# Altium footprint library 47 RESISTORS_THD_AX14_8mm_P.PcbLib: 9 footprints
Each footprint in its own frame and in the unit in brackets; x right, y up, seen from the top. Pads: shape width x height; smd on the part's side, far side on the other; paste and mask are expansions set on the pad; w line width, h text height; cw(c..) or ccw(c..) is an arc to the next point about the centre after c.
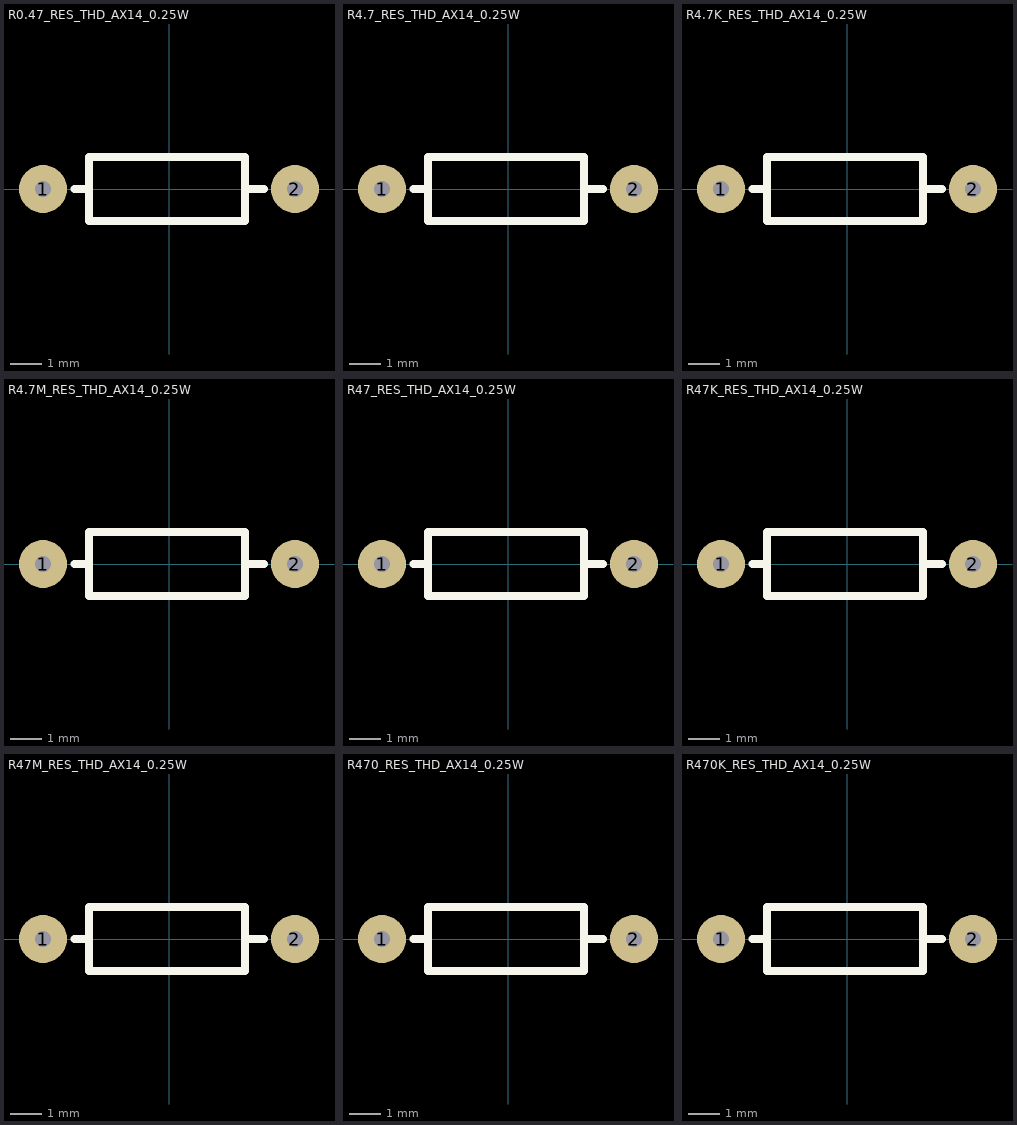
[diagram p0: the footprints below, top view; thin cyan lines are the x and y axes]

## R0.47_RES_THD_AX14_0.25W [mil] "RESISTOR 0.47 Ohm  THD AX14 0.25W Length  8mm"
pads (2):
  round 60 hole 19.68: 1(-157.48,0) 2(157.48,0)
Top Overlay:
  lines w10: -118.28,0 -100.6,0 ; 95,0 118.49,0 ; -100,-40 95,-40 95,40 -100,40 -100,-40
3D body "RES_THD_ASR_ASRM_0.47.STEP": height 96.5, standoff -96.46, extent -167.32,-45.33 167.32,45.33

## R4.7_RES_THD_AX14_0.25W [mil] "RESISTOR 4.7 Ohm  THD AX14 0.25W Length  8mm"
pads (2):
  round 60 hole 19.68: 1(-157.48,0) 2(157.48,0)
Top Overlay:
  lines w10: -118.28,0 -100.6,0 ; 95,0 118.49,0 ; -100,-40 -100,40 95,40 95,-40 -100,-40
3D body "RES_THD_ASR_ASRM_4.7.STEP": height 96.5, standoff -96.46, extent -167.32,-45.33 167.32,45.33

## R4.7K_RES_THD_AX14_0.25W [mil] "RESISTOR 4.7K Ohm  THD AX14 0.25W Length  8mm"
pads (2):
  round 60 hole 19.68: 1(-157.48,0) 2(157.48,0)
Top Overlay:
  lines w10: -118.28,0 -100.6,0 ; 95,0 118.49,0 ; -100,-40 -100,40 95,40 95,-40 -100,-40
3D body "RES_THD_ASR_ASRM_4.7K.STEP": height 96.5, standoff -96.46, extent -167.32,-45.33 167.32,45.33

## R4.7M_RES_THD_AX14_0.25W [mil] "RESISTOR 4.7M Ohm  THD AX14 0.25W Length  8mm"
pads (2):
  round 60 hole 19.68: 1(-157.48,0) 2(157.48,0)
Top Overlay:
  lines w10: -118.28,0 -100.6,0 ; 95,0 118.49,0 ; -100,-40 -100,40 95,40 95,-40 -100,-40
3D body "RES_THD_ASR_ASRM_4.7M.STEP": height 96.5, standoff -96.46, extent -167.32,-45.33 167.32,45.33

## R47_RES_THD_AX14_0.25W [mil] "RESISTOR 47 Ohm  THD AX14 0.25W Length  8mm"
pads (2):
  round 60 hole 19.68: 1(-157.48,0) 2(157.48,0)
Top Overlay:
  lines w10: -118.28,0 -100.6,0 ; 95,0 118.49,0 ; -100,-40 95,-40 95,40 -100,40 -100,-40
3D body "RES_THD_ASR_ASRM_47.STEP": height 96.5, standoff -96.46, extent -167.32,-45.33 167.32,45.33

## R47K_RES_THD_AX14_0.25W [mil] "RESISTOR 47K Ohm  THD AX14 0.25W Length  8mm"
pads (2):
  round 60 hole 19.68: 1(-157.48,0) 2(157.48,0)
Top Overlay:
  lines w10: -118.28,0 -100.6,0 ; 95,0 118.49,0 ; -100,-40 95,-40 95,40 -100,40 -100,-40
3D body "RES_THD_ASR_ASRM_47K.STEP": height 96.5, standoff -96.46, extent -167.32,-45.33 167.32,45.33

## R47M_RES_THD_AX14_0.25W [mil] "RESISTOR 47M Ohm  THD AX14 0.25W Length  8mm"
pads (2):
  round 60 hole 19.68: 1(-157.48,0) 2(157.48,0)
Top Overlay:
  lines w10: -118.28,0 -100.6,0 ; 95,0 118.49,0 ; -100,-40 -100,40 95,40 95,-40 -100,-40
3D body "RES_THD_ASR_ASRM_47M.STEP": height 96.5, standoff -96.46, extent -167.32,-45.33 167.32,45.33

## R470_RES_THD_AX14_0.25W [mil] "RESISTOR 470 Ohm  THD AX14 0.25W Length  8mm"
pads (2):
  round 60 hole 19.68: 1(-157.48,0) 2(157.48,0)
Top Overlay:
  lines w10: -118.28,0 -100.6,0 ; 95,0 118.49,0 ; -100,-40 95,-40 95,40 -100,40 -100,-40
3D body "RES_THD_ASR_ASRM_470.STEP": height 96.5, standoff -96.46, extent -167.32,-45.33 167.32,45.33

## R470K_RES_THD_AX14_0.25W [mil] "RESISTOR 470K Ohm  THD AX14 0.25W Length  8mm"
pads (2):
  round 60 hole 19.68: 1(-157.48,0) 2(157.48,0)
Top Overlay:
  lines w10: -118.28,0 -100.6,0 ; 95,0 118.49,0 ; -100,-40 -100,40 95,40 95,-40 -100,-40
3D body "RES_THD_ASR_ASRM_470K.STEP": height 96.5, standoff -96.46, extent -167.32,-45.33 167.32,45.33